# EAGLE library part USB4105-GF-A (library 2025-05-17_06-11-27_Library)
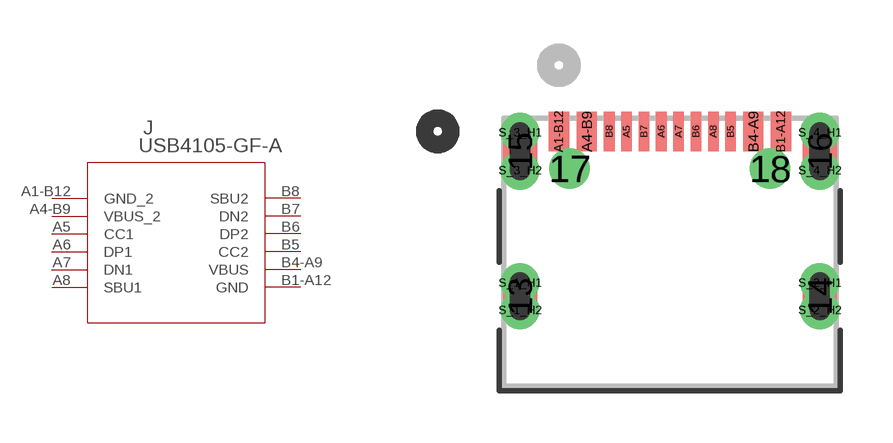
[diagram p0: symbol with the pads of USB4105_GCT; footprint USB4105_GCT]

Designator prefix J

## USB4105-GF-AUSB4105_GCT (Copyright: Copyright (C) 2025 Ultra Librarian. All rights reserved.; Manufacturer_Part_Number: USB4105-GF-A; Mfr_Name: Global Connector Technology)  [USB4105_GCT]
A1-B12  GND_2  pas
A4-B9  VBUS_2  pwr
A5  CC1
A6  DP1
A7  DN1
A8  SBU1
B1-A12  GND  pas
B4-A9  VBUS  pwr
B5  CC2
B6  DP2
B7  DN2
B8  SBU2

## Footprint USB4105_GCT (pad centres in mm)
smd 0.991 x 1.803: 13 -4.32,-1.269; 14 4.32,-1.269
smd 0.991 x 2.108: 15 -4.32,2.911; 16 4.32,2.911
drill 0.66 pad 0.66 round: 17 -2.89,2.411; 18 2.89,2.411
smd 0.584 x 1.143: A1-B12 -3.2,3.486; A4-B9 -2.4,3.486; B1-A12 3.2,3.486; B4-A9 2.4,3.486
smd 0.305 x 1.143: A5 -1.25,3.486; A6 -0.25,3.486; A7 0.25,3.486; A8 1.25,3.486; B5 1.75,3.486; B6 0.75,3.486; B7 -0.75,3.486; B8 -1.75,3.486
drill 0.61 pad 0.61 round: S_1_H1 -4.32,-0.875; S_1_H2 -4.32,-1.663; S_2_H1 4.32,-0.875; S_2_H2 4.32,-1.663; S_3_H1 -4.32,3.457; S_3_H2 -4.32,2.365; S_4_H1 4.32,3.457; S_4_H2 4.32,2.365